# EAGLE library part LM324 (library custom)
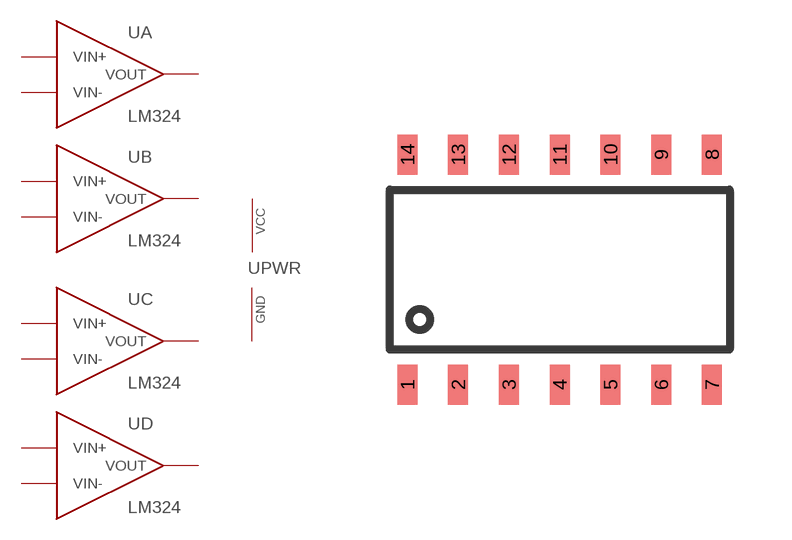
[diagram p72: symbol with the pads of 14-SOIC; footprint 14-SOIC]

Designator prefix U; gates A=OP-AMP B=OP-AMP C=OP-AMP D=OP-AMP PWR=PWRN

## LM324  [14-SOIC]
1  A:VOUT
2  A:VIN-
3  A:VIN+
4  PWR:VCC  pwr
5  B:VIN+
6  B:VIN-
7  B:VOUT
8  C:VOUT
9  C:VIN-
10  C:VIN+
11  PWR:GND  pwr
12  D:VIN+
13  D:VIN-
14  D:VOUT

## Footprint 14-SOIC (pad centres in mm)
smd 0.5 x 1: 1 -3.81,-2.875; 2 -2.54,-2.875; 3 -1.27,-2.875; 4 0,-2.875; 5 1.27,-2.875; 6 2.54,-2.875; 7 3.81,-2.875; 8 3.81,2.875; 9 2.54,2.875; 10 1.27,2.875; 11 0,2.875; 12 -1.27,2.875; 13 -2.54,2.875; 14 -3.81,2.875